# Altium footprint library CQFP_Sq_65P_Side_M.PcbLib: 1 footprints
Each footprint in its own frame and in the unit in brackets; x right, y up, seen from the top. Pads: shape width x height; smd on the part's side, far side on the other; paste and mask are expansions set on the pad; w line width, h text height; cw(c..) or ccw(c..) is an arc to the next point about the centre after c.
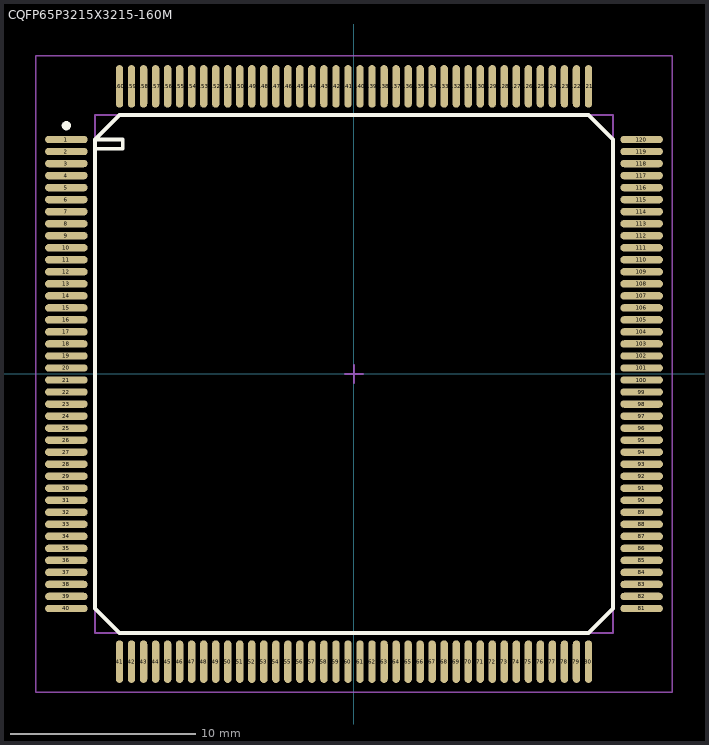
[diagram p0: the footprint, top view; thin cyan lines are the x and y axes]

## CQFP65P3215X3215-160M [mm] "CQFP, 160-Leads, Body 28x28mm; Pitch 0.65mm, Gullwing Leadform, IPC Low Density"
height 3.4
pads (160):
  oval 2.3x0.4 smd: 1(-15.55,12.675) 2(-15.55,12.025) 3(-15.55,11.375) 4(-15.55,10.725) 5(-15.55,10.075) 6(-15.55,9.425) 7(-15.55,8.775) 8(-15.55,8.125) 9(-15.55,7.475) 10(-15.55,6.825) 11(-15.55,6.175) 12(-15.55,5.525) 13(-15.55,4.875) 14(-15.55,4.225) 15(-15.55,3.575) 16(-15.55,2.925) 17(-15.55,2.275) 18(-15.55,1.625) 19(-15.55,0.975) 20(-15.55,0.325) 21(-15.55,-0.325) 22(-15.55,-0.975) 23(-15.55,-1.625) 24(-15.55,-2.275) 25(-15.55,-2.925) 26(-15.55,-3.575) 27(-15.55,-4.225) 28(-15.55,-4.875) 29(-15.55,-5.525) 30(-15.55,-6.175) 31(-15.55,-6.825) 32(-15.55,-7.475) 33(-15.55,-8.125) 34(-15.55,-8.775) 35(-15.55,-9.425) 36(-15.55,-10.075) 37(-15.55,-10.725) 38(-15.55,-11.375) 39(-15.55,-12.025) 40(-15.55,-12.675) 81(15.55,-12.675) 82(15.55,-12.025) 83(15.55,-11.375) 84(15.55,-10.725) 85(15.55,-10.075) 86(15.55,-9.425) 87(15.55,-8.775) 88(15.55,-8.125) 89(15.55,-7.475) 90(15.55,-6.825) 91(15.55,-6.175) 92(15.55,-5.525) 93(15.55,-4.875) 94(15.55,-4.225) 95(15.55,-3.575) 96(15.55,-2.925) 97(15.55,-2.275) 98(15.55,-1.625) 99(15.55,-0.975) 100(15.55,-0.325) 101(15.55,0.325) 102(15.55,0.975) 103(15.55,1.625) 104(15.55,2.275) 105(15.55,2.925) 106(15.55,3.575) 107(15.55,4.225) 108(15.55,4.875) 109(15.55,5.525) 110(15.55,6.175) 111(15.55,6.825) 112(15.55,7.475) 113(15.55,8.125) 114(15.55,8.775) 115(15.55,9.425) 116(15.55,10.075) 117(15.55,10.725) 118(15.55,11.375) 119(15.55,12.025) 120(15.55,12.675)
  oval 0.4x2.3 smd: 41(-12.675,-15.55) 42(-12.025,-15.55) 43(-11.375,-15.55) 44(-10.725,-15.55) 45(-10.075,-15.55) 46(-9.425,-15.55) 47(-8.775,-15.55) 48(-8.125,-15.55) 49(-7.475,-15.55) 50(-6.825,-15.55) 51(-6.175,-15.55) 52(-5.525,-15.55) 53(-4.875,-15.55) 54(-4.225,-15.55) 55(-3.575,-15.55) 56(-2.925,-15.55) 57(-2.275,-15.55) 58(-1.625,-15.55) 59(-0.975,-15.55) 60(-0.325,-15.55) 61(0.325,-15.55) 62(0.975,-15.55) 63(1.625,-15.55) 64(2.275,-15.55) 65(2.925,-15.55) 66(3.575,-15.55) 67(4.225,-15.55) 68(4.875,-15.55) 69(5.525,-15.55) 70(6.175,-15.55) 71(6.825,-15.55) 72(7.475,-15.55) 73(8.125,-15.55) 74(8.775,-15.55) 75(9.425,-15.55) 76(10.075,-15.55) 77(10.725,-15.55) 78(11.375,-15.55) 79(12.025,-15.55) 80(12.675,-15.55) 121(12.675,15.55) 122(12.025,15.55) 123(11.375,15.55) 124(10.725,15.55) 125(10.075,15.55) 126(9.425,15.55) 127(8.775,15.55) 128(8.125,15.55) 129(7.475,15.55) 130(6.825,15.55) 131(6.175,15.55) 132(5.525,15.55) 133(4.875,15.55) 134(4.225,15.55) 135(3.575,15.55) 136(2.925,15.55) 137(2.275,15.55) 138(1.625,15.55) 139(0.975,15.55) 140(0.325,15.55) 141(-0.325,15.55) 142(-0.975,15.55) 143(-1.625,15.55) 144(-2.275,15.55) 145(-2.925,15.55) 146(-3.575,15.55) 147(-4.225,15.55) 148(-4.875,15.55) 149(-5.525,15.55) 150(-6.175,15.55) 151(-6.825,15.55) 152(-7.475,15.55) 153(-8.125,15.55) 154(-8.775,15.55) 155(-9.425,15.55) 156(-10.075,15.55) 157(-10.725,15.55) 158(-11.375,15.55) 159(-12.025,15.55) 160(-12.675,15.55)
Top Overlay:
  circle w0.25: c-15.55,13.425 r0.125
  lines w0.2: -14,12.175 -12.5,12.175 -12.5,12.675 -14,12.675 ; -14,12.675 -14,-12.675 -12.675,-14 12.675,-14 14,-12.675 14,12.675 12.675,14 -12.675,14 -14,12.675
Mechanical 13:
  lines w0.1: -14,-14 -14,14 14,14 14,-14 -14,-14
Mechanical 15:
  lines w0.1: -0.5,0 0.5,0 ; 0,-0.5 0,0.5 ; -17.2,-17.2 -17.2,17.2 17.2,17.2 17.2,-17.2 -17.2,-17.2
3D body: height 3.4, standoff 0, extent -14,-14 14,14